# EAGLE library part USB-MICRO-TABS (library ubo_PQ60)
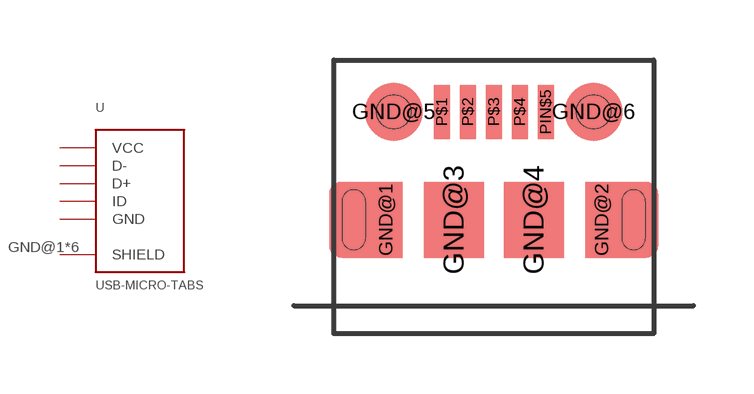
[diagram p13: symbol with the pads of USB-MICRO-TABS; footprint USB-MICRO-TABS]

Designator prefix -

## USB-MICRO-TABS  [USB-MICRO-TABS]
GND@1  SHIELD
GND@2  SHIELD
GND@3  SHIELD
GND@4  SHIELD
GND@5  SHIELD
GND@6  SHIELD
P$1  VCC
P$2  D-
P$3  D+
P$4  ID
PIN$5  GND

## Footprint USB-MICRO-TABS (pad centres in mm)
smd 0.635 x 1.27: GND@1 -2.7,0; GND@2 2.7,0
smd 1.5 x 1.9: GND@3 -1,0; GND@4 1,0
smd 1.45 x 1.45: GND@5 -2.5,2.7; GND@6 2.5,2.7
smd 0.4 x 1.35: P$1 -1.3,2.7; P$2 -0.65,2.7; P$3 0,2.7; P$4 0.65,2.7; PIN$5 1.3,2.7